# Altium footprint library SDP_PPCB.PcbLib: 6 footprints
Each footprint in its own frame and in the unit in brackets; x right, y up, seen from the top. Pads: shape width x height; smd on the part's side, far side on the other; paste and mask are expansions set on the pad; w line width, h text height; cw(c..) or ccw(c..) is an arc to the next point about the centre after c.
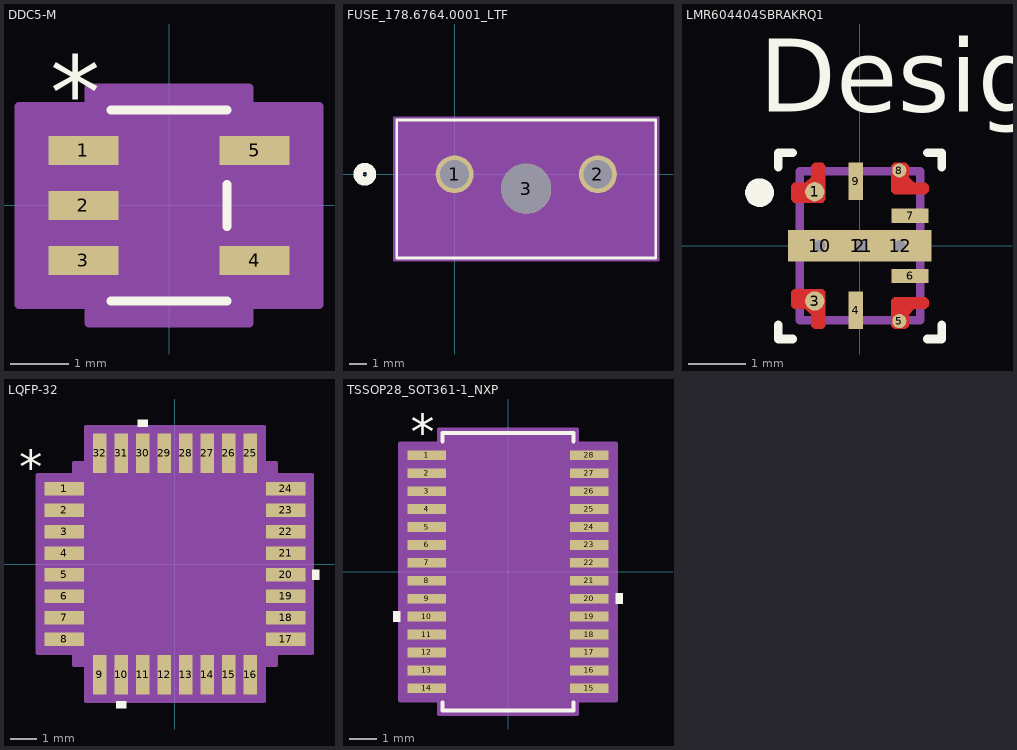
[diagram p0: the footprints below, top view; thin cyan lines are the x and y axes]

## DDC5-M [mil]
pads (5):
  rect 47.5x20 smd paste+0 mask+0: 1(-58.25,37.4) 2(-58.25,0) 3(-58.25,-37.4) 4(58.25,-37.4) 5(58.25,37.4)
Top Overlay:
  lines w6: -39.5,-65 39.5,-65 ; -39.5,65 39.5,65 ; 39.5,-14.3 39.5,14.3
  text ".Designator" at -137.5,-25 h50
  text "*" at -80.75,52.4 h50
Mechanical 13:
  lines w1: -12,60 ccw(c0,60) 12,60 ; -60,-47.4 -34.5,-47.4 -34.5,-27.4 -60,-27.4 -60,-47.4 ; -60,-10 -34.5,-10 -34.5,10 -60,10 -60,-10 ; -60,27.4 -34.5,27.4 -34.5,47.4 -60,47.4 -60,27.4 ; -34.5,-60 -34.5,60 34.5,60 34.5,-60 -34.5,-60 ; 34.5,-47.4 60,-47.4 60,-27.4 34.5,-27.4 34.5,-47.4 ; 34.5,27.4 60,27.4 60,47.4 34.5,47.4 34.5,27.4
  text "*" at -37,14.4 h50
  text ".Designator" at -137.5,-25 h50
Mechanical 15:
  region: 54.5,-80 -54.5,-80 -54.5,-67.4 -102,-67.4 -102,67.4 -54.5,67.4 -54.5,80 54.5,80 54.5,67.4 102,67.4 102,-67.4 54.5,-67.4
  lines w6: -102,-67.4 -102,67.4 -54.5,67.4 -54.5,80 54.5,80 54.5,67.4 102,67.4 102,-67.4 54.5,-67.4 54.5,-80 -54.5,-80 -54.5,-67.4 -102,-67.4
3D body "DDC5.step": height 43.11, standoff 0, extent -60,-60 60,60
3D body "DDC0005A.stp": height 38.19, standoff 0, extent -55.12,-57.09 55.12,57.09
3D body "DDC0005A.stp": height 38.19, standoff 0, extent -55.12,-57.09 55.12,57.09

## FUSE_178.6764.0001_LTF [mil]
pads (3):
  round 83 hole 63 paste-99999 mask+0: 1(0,0) 2(314.96,0)
  round 110 hole 110 unplated paste-99999 mask+0: 3(157.48,-31.5)
Top Overlay:
  circle w20: c-197.02,0 r15
  lines w6: -127.02,-183.83 441.98,-183.83 441.98,119.17 -127.02,119.17 -127.02,-183.83
  text ".Designator" at 19.98,-25 h50
Bottom Overlay:
  circle w20: c-197.02,0 r15
Mechanical 13:
  circle w20: c0,75 r15
  lines w1: -122.02,-178.83 436.98,-178.83 436.98,114.17 -122.02,114.17 -122.02,-178.83
  text ".Designator" at 19.98,-25 h50
Mechanical 15:
  region: 446.98,124.17 -132.02,124.17 -132.02,-188.83 446.98,-188.83
  lines w6: -132.02,-188.83 -132.02,124.17 446.98,124.17 446.98,-188.83 -132.02,-188.83

## LMR604404SBRAKRQ1 [mm]
pads (12):
  round 0.337 smd paste-0.156 mask+0: 1(-0.787,0.943) 3(-0.787,-0.962)
  rect 2.5x0.55 smd paste-1.237 mask-1.232: 2(0,0)
  rect 0.25x0.65 smd paste+0 mask+0: 4(-0.075,-1.125) 9(-0.075,1.125)
  round 0.247 smd paste+0 mask+0: 5(0.687,-1.312) 8(0.687,1.312)
  rect 0.65x0.25 smd paste+0 mask+0: 6(0.875,-0.525) 7(0.875,0.525)
  round 0.5 hole 0.203 paste-2539.97 mask-0.241: 10(-0.7,0) 11(0.025,0) 12(0.7,0)
Top Layer:
  region: 0.6,0.9 1.15,0.9 1.2,0.95 1.2,1.05 1.15,1.1 0.95,1.1 0.85,1.2 0.85,1.4 0.8,1.45 0.6,1.45 0.55,1.4 0.55,0.95
  region: 0.6,-0.9 1.15,-0.9 1.2,-0.95 1.2,-1.05 1.15,-1.1 0.95,-1.1 0.85,-1.2 0.85,-1.4 0.8,-1.45 0.6,-1.45 0.55,-1.4 0.55,-0.95
  region: -0.65,-0.755 -1.15,-0.755 -1.2,-0.805 -1.2,-1.05 -1.15,-1.1 -0.95,-1.1 -0.85,-1.2 -0.85,-1.4 -0.8,-1.45 -0.65,-1.45 -0.6,-1.4 -0.6,-0.805
  region: -0.65,0.755 -1.15,0.755 -1.2,0.805 -1.2,1.05 -1.15,1.1 -0.95,1.1 -0.85,1.2 -0.85,1.4 -0.8,1.45 -0.65,1.45 -0.6,1.4 -0.6,0.805
Top Overlay:
  circle w0.25: c-1.75,0.927 r0.125
  lines w0.15: -1.425,-1.375 -1.425,-1.625 -1.175,-1.625 ; -1.425,1.375 -1.425,1.625 -1.175,1.625 ; 1.175,-1.625 1.425,-1.625 1.425,-1.375 ; 1.175,1.625 1.425,1.625 1.425,1.375
  text ".Designator" at -3.492,-0.635 h1.27
  text "Designator853" at -1.753,2.337 h1.27
Top Paste:
  region: 1.15,-0.15 0.15,-0.15 0.1,-0.1 0.1,0.1 0.15,0.15 1.15,0.15 1.2,0.1 1.2,-0.1
  region: -0.15,-0.205 -1.15,-0.205 -1.2,-0.155 -1.2,0.155 -1.15,0.205 -0.15,0.205 -0.1,0.155 -0.1,-0.155
  region: -0.69,0.755 -1.15,0.755 -1.2,0.805 -1.2,1.05 -1.15,1.1 -0.95,1.1 -0.85,1.2 -0.85,1.4 -0.8,1.45 -0.69,1.45 -0.64,1.4 -0.64,0.805
  region: -0.69,-0.755 -1.15,-0.755 -1.2,-0.805 -1.2,-1.05 -1.15,-1.1 -0.95,-1.1 -0.85,-1.2 -0.85,-1.4 -0.8,-1.45 -0.69,-1.45 -0.64,-1.4 -0.64,-0.805
  region: 1.2,0.95 1.15,0.9 0.6,0.9 0.55,0.95 0.55,1.4 0.6,1.45 0.8,1.45 0.85,1.4 0.85,1.2 0.95,1.1 1.15,1.1 1.2,1.05
  region: 0.6,-0.9 1.15,-0.9 1.2,-0.95 1.2,-1.05 1.15,-1.1 0.95,-1.1 0.85,-1.2 0.85,-1.4 0.8,-1.45 0.6,-1.45 0.55,-1.4 0.55,-0.95
Top Solder:
  region: -0.059,-0.225 -1.15,-0.225 -1.2,-0.175 -1.2,0.175 -1.15,0.225 -0.059,0.225 -0.027,0.214 0.037,0.161 0.069,0.15 1.15,0.15 1.2,0.1 1.2,-0.1 1.15,-0.15 0.069,-0.15 0.037,-0.161 -0.027,-0.214
  region: 1.2,0.95 1.15,0.9 0.6,0.9 0.55,0.95 0.55,1.4 0.6,1.45 0.8,1.45 0.85,1.4 0.85,1.2 0.95,1.1 1.15,1.1 1.2,1.05
  region: 0.6,-0.9 1.15,-0.9 1.2,-0.95 1.2,-1.05 1.15,-1.1 0.95,-1.1 0.85,-1.2 0.85,-1.4 0.8,-1.45 0.6,-1.45 0.55,-1.4 0.55,-0.95
  region: -1.2,-0.805 -1.15,-0.755 -0.65,-0.755 -0.6,-0.805 -0.6,-1.4 -0.65,-1.45 -0.8,-1.45 -0.85,-1.4 -0.85,-1.2 -0.95,-1.1 -1.15,-1.1 -1.2,-1.05
  region: -0.65,0.755 -1.15,0.755 -1.2,0.805 -1.2,1.05 -1.15,1.1 -0.95,1.1 -0.85,1.2 -0.85,1.4 -0.8,1.45 -0.65,1.45 -0.6,1.4 -0.6,0.805
Mechanical 13:
  lines w0.15: -1.05,-1.3 -1.05,1.3 1.05,1.3 1.05,-1.3 -1.05,-1.3
  text ".Designator" at -3.492,-0.635 h1.27
3D body "RAK0009A.stp": height 0.8, standoff 0, extent -0.975,-1.25 1.025,1.25

## LQFP-32 [mm]
pads (32):
  rect 1.462x0.507 smd paste+0 mask+0: 1(-4.115,2.8) 2(-4.115,2) 3(-4.115,1.2) 4(-4.115,0.4) 5(-4.115,-0.4) 6(-4.115,-1.2) 7(-4.115,-2) 8(-4.115,-2.8) 17(4.115,-2.8) 18(4.115,-2) 19(4.115,-1.2) 20(4.115,-0.4) 21(4.115,0.4) 22(4.115,1.2) 23(4.115,2) 24(4.115,2.8)
  rect 0.507x1.462 smd paste+0 mask+0: 9(-2.8,-4.115) 10(-2,-4.115) 11(-1.2,-4.115) 12(-0.4,-4.115) 13(0.4,-4.115) 14(1.2,-4.115) 15(2,-4.115) 16(2.8,-4.115) 25(2.8,4.115) 26(2,4.115) 27(1.2,4.115) 28(0.4,4.115) 29(-0.4,4.115) 30(-1.2,4.115) 31(-2,4.115) 32(-2.8,4.115)
Top Overlay:
  region: -1.01,5.1 -1.391,5.1 -1.391,5.354 -1.01,5.354
  region: 5.1,-0.209 5.354,-0.209 5.354,-0.59 5.1,-0.59
  region: -1.81,-5.1 -2.191,-5.1 -2.191,-5.354 -1.81,-5.354
  text ".Designator" at -3.492,-0.635 h1.27
  text "*" at -5.798,2.946 h1.27
Mechanical 13:
  lines w0.025: -3.505,2.235 -2.235,3.505 ; -4.496,-3.029 -3.505,-3.029 -3.505,-2.571 -4.496,-2.571 -4.496,-3.029 ; -4.496,-2.229 -3.505,-2.229 -3.505,-1.771 -4.496,-1.771 -4.496,-2.229 ; -4.496,-1.429 -3.505,-1.429 -3.505,-0.971 -4.496,-0.971 -4.496,-1.429 ; -4.496,-0.629 -3.505,-0.629 -3.505,-0.171 -4.496,-0.171 -4.496,-0.629 ; -4.496,0.171 -3.505,0.171 -3.505,0.629 -4.496,0.629 -4.496,0.171 ; -4.496,0.971 -3.505,0.971 -3.505,1.429 -4.496,1.429 -4.496,0.971 ; -4.496,1.771 -3.505,1.771 -3.505,2.229 -4.496,2.229 -4.496,1.771 ; -4.496,2.571 -3.505,2.571 -3.505,3.029 -4.496,3.029 -4.496,2.571 ; -3.505,-3.505 3.505,-3.505 3.505,3.505 -3.505,3.505 -3.505,-3.505 ; -3.029,-4.496 -2.571,-4.496 -2.571,-3.505 -3.029,-3.505 -3.029,-4.496 ; -3.029,3.505 -3.029,4.496 -2.571,4.496 -2.571,3.505 -3.029,3.505 ; -2.229,-4.496 -1.771,-4.496 -1.771,-3.505 -2.229,-3.505 -2.229,-4.496 ; -2.229,3.505 -2.229,4.496 -1.771,4.496 -1.771,3.505 -2.229,3.505 ; -1.429,-4.496 -0.971,-4.496 -0.971,-3.505 -1.429,-3.505 -1.429,-4.496 ; -1.429,3.505 -1.429,4.496 -0.971,4.496 -0.971,3.505 -1.429,3.505 ; -0.629,-4.496 -0.171,-4.496 -0.171,-3.505 -0.629,-3.505 -0.629,-4.496 ; -0.629,3.505 -0.629,4.496 -0.171,4.496 -0.171,3.505 -0.629,3.505 ; 0.171,-4.496 0.629,-4.496 0.629,-3.505 0.171,-3.505 0.171,-4.496 ; 0.171,3.505 0.171,4.496 0.629,4.496 0.629,3.505 0.171,3.505 ; 0.971,-4.496 1.429,-4.496 1.429,-3.505 0.971,-3.505 0.971,-4.496 ; 0.971,3.505 0.971,4.496 1.429,4.496 1.429,3.505 0.971,3.505 ; 1.771,-4.496 2.229,-4.496 2.229,-3.505 1.771,-3.505 1.771,-4.496 ; 1.771,3.505 1.771,4.496 2.229,4.496 2.229,3.505 1.771,3.505 ; 2.571,-4.496 3.029,-4.496 3.029,-3.505 2.571,-3.505 2.571,-4.496 ; 2.571,3.505 2.571,4.496 3.029,4.496 3.029,3.505 2.571,3.505 ; 3.505,-3.029 4.496,-3.029 4.496,-2.571 3.505,-2.571 3.505,-3.029 ; 3.505,-2.229 4.496,-2.229 4.496,-1.771 3.505,-1.771 3.505,-2.229 ; 3.505,-1.429 4.496,-1.429 4.496,-0.971 3.505,-0.971 3.505,-1.429 ; 3.505,-0.629 4.496,-0.629 4.496,-0.171 3.505,-0.171 3.505,-0.629 ; 3.505,0.171 4.496,0.171 4.496,0.629 3.505,0.629 3.505,0.171 ; 3.505,0.971 4.496,0.971 4.496,1.429 3.505,1.429 3.505,0.971 ; 3.505,1.771 4.496,1.771 4.496,2.229 3.505,2.229 3.505,1.771 ; 3.505,2.571 4.496,2.571 4.496,3.029 3.505,3.029 3.505,2.571
  text "*" at -3.442,2.565 h1.27
  text ".Designator" at -3.492,-0.635 h1.27
Mechanical 15:
  region: -3.308,-3.759 -3.759,-3.759 -3.759,-3.308 -5.1,-3.308 -5.1,3.308 -3.759,3.308 -3.759,3.759 -3.308,3.759 -3.308,5.1 3.308,5.1 3.308,3.759 3.759,3.759 3.759,3.308 5.1,3.308 5.1,-3.308 3.759,-3.308 3.759,-3.759 3.308,-3.759 3.308,-5.1 -3.308,-5.1
  lines w0.152: -5.1,-3.308 -5.1,3.308 -3.759,3.308 -3.759,3.759 -3.308,3.759 -3.308,5.1 3.308,5.1 3.308,3.759 3.759,3.759 3.759,3.308 5.1,3.308 5.1,-3.308 3.759,-3.308 3.759,-3.759 3.308,-3.759 3.308,-5.1 -3.308,-5.1 -3.308,-3.759 -3.759,-3.759 -3.759,-3.308 -5.1,-3.308
3D body "LQFP-32.step": height 1.6, standoff 0, extent -4.496,-4.496 4.496,4.496
3D body "LQFP-32.step": height 1.6, standoff 0, extent -4.496,-4.496 4.496,4.496
3D body "LQFP-32.step": height 1.6, standoff 0, extent -4.496,-4.496 4.496,4.496

## PCBComponent_1 [mm]

## TSSOP28_SOT361-1_NXP [mm]
pads (28):
  rect 1.404x0.355 smd paste+0 mask+0: 1(-2.95,4.225) 2(-2.95,3.575) 3(-2.95,2.925) 4(-2.95,2.275) 5(-2.95,1.625) 6(-2.95,0.975) 7(-2.95,0.325) 8(-2.95,-0.325) 9(-2.95,-0.975) 10(-2.95,-1.625) 11(-2.95,-2.275) 12(-2.95,-2.925) 13(-2.95,-3.575) 14(-2.95,-4.225) 15(2.95,-4.225) 16(2.95,-3.575) 17(2.95,-2.925) 18(2.95,-2.275) 19(2.95,-1.625) 20(2.95,-0.975) 21(2.95,-0.325) 22(2.95,0.325) 23(2.95,0.975) 24(2.95,1.625) 25(2.95,2.275) 26(2.95,2.925) 27(2.95,3.575) 28(2.95,4.225)
Top Overlay:
  region: 3.906,-0.784 4.16,-0.784 4.16,-1.165 3.906,-1.165
  region: -3.906,-1.434 -4.16,-1.434 -4.16,-1.815 -3.906,-1.815
  lines w0.152: -2.375,-4.735 -2.375,-5.029 2.375,-5.029 2.375,-4.735 ; -2.375,4.735 -2.375,5.029 2.375,5.029 2.375,4.735
  text ".Designator" at -3.492,-0.635 h1.27
  text "*" at -3.521,4.453 h1.27
Mechanical 13:
  lines w0.025: -0.305,4.902 ccw(c0,4.902) 0.305,4.902 ; -3.302,-4.377 -2.248,-4.377 -2.248,-4.073 -3.302,-4.073 -3.302,-4.377 ; -3.302,-3.727 -2.248,-3.727 -2.248,-3.423 -3.302,-3.423 -3.302,-3.727 ; -3.302,-3.077 -2.248,-3.077 -2.248,-2.773 -3.302,-2.773 -3.302,-3.077 ; -3.302,-2.427 -2.248,-2.427 -2.248,-2.123 -3.302,-2.123 -3.302,-2.427 ; -3.302,-1.777 -2.248,-1.777 -2.248,-1.473 -3.302,-1.473 -3.302,-1.777 ; -3.302,-1.127 -2.248,-1.127 -2.248,-0.823 -3.302,-0.823 -3.302,-1.127 ; -3.302,-0.477 -2.248,-0.477 -2.248,-0.173 -3.302,-0.173 -3.302,-0.477 ; -3.302,0.173 -2.248,0.173 -2.248,0.477 -3.302,0.477 -3.302,0.173 ; -3.302,0.823 -2.248,0.823 -2.248,1.127 -3.302,1.127 -3.302,0.823 ; -3.302,1.473 -2.248,1.473 -2.248,1.777 -3.302,1.777 -3.302,1.473 ; -3.302,2.123 -2.248,2.123 -2.248,2.427 -3.302,2.427 -3.302,2.123 ; -3.302,2.773 -2.248,2.773 -2.248,3.077 -3.302,3.077 -3.302,2.773 ; -3.302,3.423 -2.248,3.423 -2.248,3.727 -3.302,3.727 -3.302,3.423 ; -3.302,4.073 -2.248,4.073 -2.248,4.377 -3.302,4.377 -3.302,4.073 ; -2.248,-4.902 -2.248,4.902 2.248,4.902 2.248,-4.902 -2.248,-4.902 ; 2.248,-4.377 3.302,-4.377 3.302,-4.073 2.248,-4.073 2.248,-4.377 ; 2.248,-3.727 3.302,-3.727 3.302,-3.423 2.248,-3.423 2.248,-3.727 ; 2.248,-3.077 3.302,-3.077 3.302,-2.773 2.248,-2.773 2.248,-3.077 ; 2.248,-2.427 3.302,-2.427 3.302,-2.123 2.248,-2.123 2.248,-2.427 ; 2.248,-1.777 3.302,-1.777 3.302,-1.473 2.248,-1.473 2.248,-1.777 ; 2.248,-1.127 3.302,-1.127 3.302,-0.823 2.248,-0.823 2.248,-1.127 ; 2.248,-0.477 3.302,-0.477 3.302,-0.173 2.248,-0.173 2.248,-0.477 ; 2.248,0.173 3.302,0.173 3.302,0.477 2.248,0.477 2.248,0.173 ; 2.248,0.823 3.302,0.823 3.302,1.127 2.248,1.127 2.248,0.823 ; 2.248,1.473 3.302,1.473 3.302,1.777 2.248,1.777 2.248,1.473 ; 2.248,2.123 3.302,2.123 3.302,2.427 2.248,2.427 2.248,2.123 ; 2.248,2.773 3.302,2.773 3.302,3.077 2.248,3.077 2.248,2.773 ; 2.248,3.423 3.302,3.423 3.302,3.727 2.248,3.727 2.248,3.423 ; 2.248,4.073 3.302,4.073 3.302,4.377 2.248,4.377 2.248,4.073
  text "*" at -2.184,3.556 h1.27
  text ".Designator" at -3.492,-0.635 h1.27
Mechanical 15:
  region: -2.502,-4.656 -3.906,-4.656 -3.906,4.656 -2.502,4.656 -2.502,5.156 2.502,5.156 2.502,4.656 3.906,4.656 3.906,-4.656 2.502,-4.656 2.502,-5.156 -2.502,-5.156
  lines w0.152: -3.906,-4.656 -2.502,-4.656 -2.502,-5.156 2.502,-5.156 2.502,-4.656 3.906,-4.656 3.906,4.656 2.502,4.656 2.502,5.156 -2.502,5.156 -2.502,4.656 -3.906,4.656 -3.906,-4.656
3D body "TSSOP28_SOT361-1_NXP.step": height 1.09, standoff 0, extent -3.302,-4.902 3.302,4.902
3D body "TSSOP28_SOT361-1_NXP.step": height 1.09, standoff 0, extent -3.302,-4.902 3.302,4.902